# Altium schematic symbol library mikroBUS_socket_standard.SchLib: 1 symbol
Pins are listed as number, name and electrical type; pins without a type are passive.

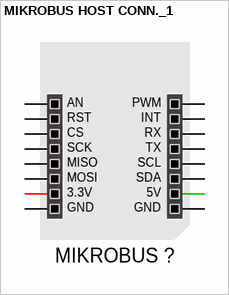
[diagram p0: symbol MIKROBUS HOST CONN._1]

## MIKROBUS HOST CONN._1
designator MIKROBUS ?, comment MIKROBUS HOST CONN.  (value not drawn)
mikroBUS Host Socket; SMD: No
footprint MIKROBUS HOST CONN.
pins: 1 AN, 2 RST, 3 CS, 4 SCK, 5 MISO, 6 MOSI, 7 3.3V, 8 GND, 9 GND, 10 5V, 11 SDA, 12 SCL, 13 TX, 14 RX, 15 INT, 16 PWM